# EAGLE library part LM2840/1/2 (library dc-dc-regulators)
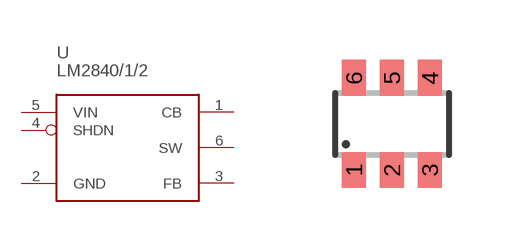
[diagram p0: symbol with the pads of SOT23-6; footprint SOT23-6]

Designator prefix -

## LM2840/1/2  [SOT23-6]
1  CB
2  GND
3  FB
4  SHDN
5  VIN
6  SW

## Footprint SOT23-6 (pad centres in mm)
Small Outline Transistor 6 lead
smd 0.6 x 0.9: 1 -0.95,-1.15; 2 0,-1.15; 3 0.95,-1.15; 4 0.95,1.15; 5 0,1.15; 6 -0.95,1.15